# EAGLE library part EP2C8T144 (library lib_stankus)
Altera EP2C8T144 FPGA Farnell #1453487
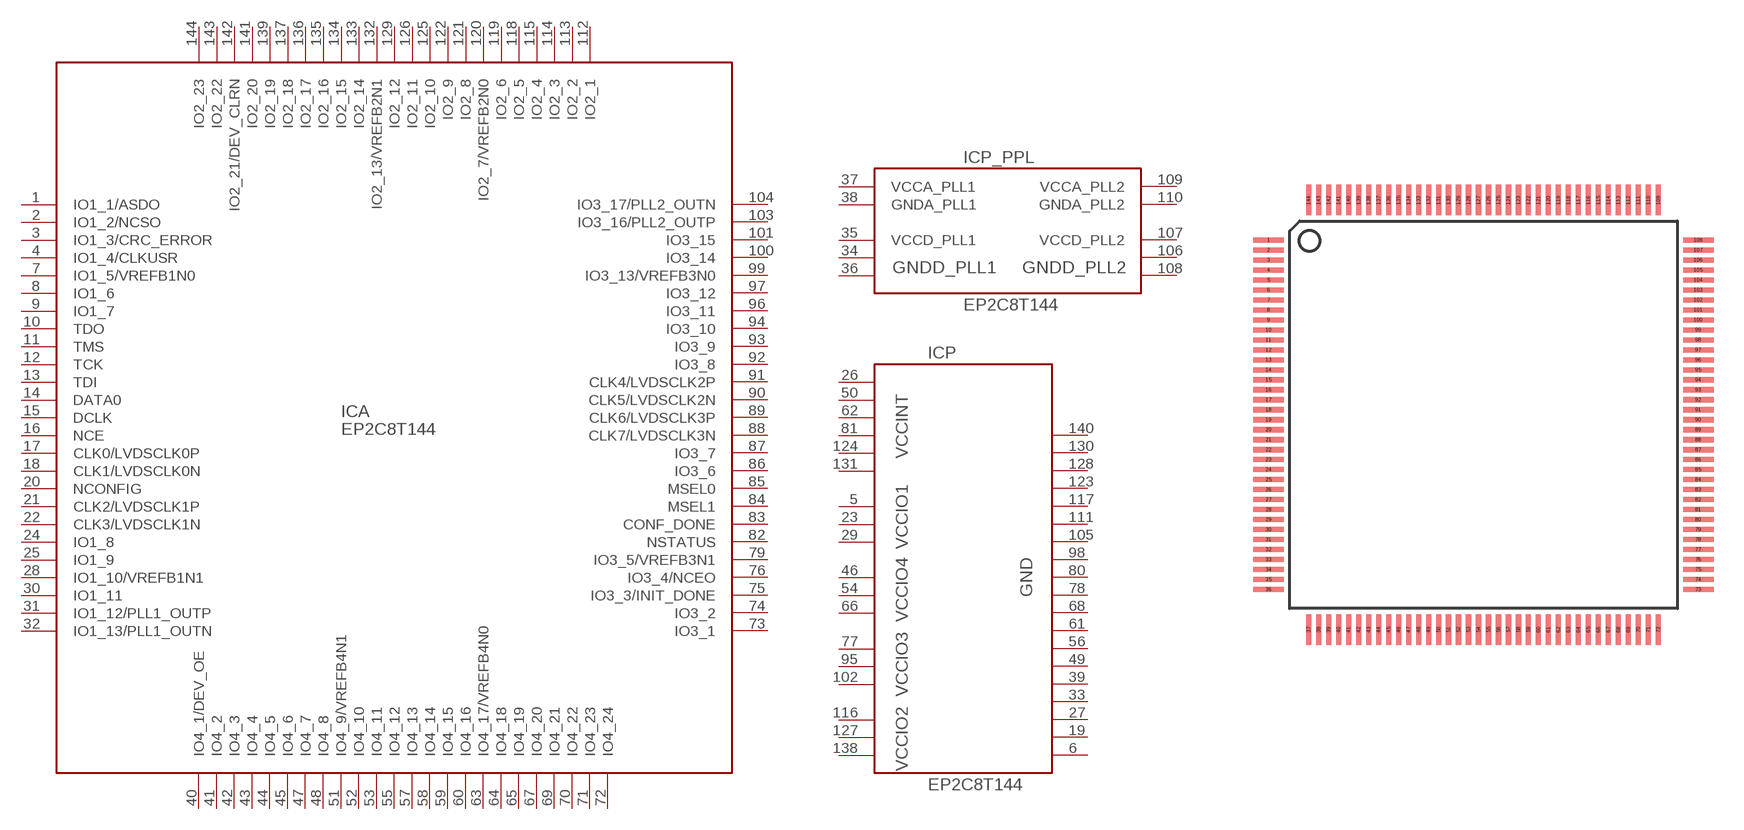
[diagram p8: symbol with the pads of QFP144_20_05; footprint QFP144_20_05]

Designator prefix IC; gates A=EP2C8T144_IO P=EP2C8T144_PWR P_PPL=EP2C8T144_PWRPLL

## EP2C8T144-QFP144  [QFP144_20_05]
1  A:IO1_1/ASDO  pas
2  A:IO1_2/NCSO  pas
3  A:IO1_3/CRC_ERROR  pas
4  A:IO1_4/CLKUSR  pas
5  P:VCCIO1  pas
6  P:GND  pas
7  A:IO1_5/VREFB1N0  pas
8  A:IO1_6  pas
9  A:IO1_7  pas
10  A:TDO  pas
11  A:TMS  pas
12  A:TCK  pas
13  A:TDI  pas
14  A:DATA0  pas
15  A:DCLK  pas
16  A:NCE  pas
17  A:CLK0/LVDSCLK0P  pas
18  A:CLK1/LVDSCLK0N  pas
19  P:GND  pas
20  A:NCONFIG  pas
21  A:CLK2/LVDSCLK1P  pas
22  A:CLK3/LVDSCLK1N  pas
23  P:VCCIO1  pas
24  A:IO1_8  pas
25  A:IO1_9  pas
26  P:VCCINT  pas
27  P:GND  pas
28  A:IO1_10/VREFB1N1  pas
29  P:VCCIO1  pas
30  A:IO1_11  pas
31  A:IO1_12/PLL1_OUTP  pas
32  A:IO1_13/PLL1_OUTN  pas
33  P:GND  pas
34  P_PPL:GNDD_PLL1  pas
35  P_PPL:VCCD_PLL1  pas
36  P_PPL:GNDD_PLL1  pas
37  P_PPL:VCCA_PLL1  pas
38  P_PPL:GNDA_PLL1  pas
39  P:GND  pas
40  A:IO4_1/DEV_OE  pas
41  A:IO4_2  pas
42  A:IO4_3  pas
43  A:IO4_4  pas
44  A:IO4_5  pas
45  A:IO4_6  pas
46  P:VCCIO4  pas
47  A:IO4_7  pas
48  A:IO4_8  pas
49  P:GND  pas
50  P:VCCINT  pas
51  A:IO4_9/VREFB4N1  pas
52  A:IO4_10  pas
53  A:IO4_11  pas
54  P:VCCIO4  pas
55  A:IO4_12  pas
56  P:GND  pas
57  A:IO4_13  pas
58  A:IO4_14  pas
59  A:IO4_15  pas
60  A:IO4_16  pas
61  P:GND  pas
62  P:VCCINT  pas
63  A:IO4_17/VREFB4N0  pas
64  A:IO4_18  pas
65  A:IO4_19  pas
66  P:VCCIO4  pas
67  A:IO4_20  pas
68  P:GND  pas
69  A:IO4_21  pas
70  A:IO4_22  pas
71  A:IO4_23  pas
72  A:IO4_24  pas
73  A:IO3_1  pas
74  A:IO3_2  pas
75  A:IO3_3/INIT_DONE  pas
76  A:IO3_4/NCEO  pas
77  P:VCCIO3  pas
78  P:GND  pas
79  A:IO3_5/VREFB3N1  pas
80  P:GND  pas
81  P:VCCINT  pas
82  A:NSTATUS  pas
83  A:CONF_DONE  pas
84  A:MSEL1  pas
85  A:MSEL0  pas
86  A:IO3_6  pas
87  A:IO3_7  pas
88  A:CLK7/LVDSCLK3N  pas
89  A:CLK6/LVDSCLK3P  pas
90  A:CLK5/LVDSCLK2N  pas
91  A:CLK4/LVDSCLK2P  pas
92  A:IO3_8  pas
93  A:IO3_9  pas
94  A:IO3_10  pas
95  P:VCCIO3  pas
96  A:IO3_11  pas
97  A:IO3_12  pas
98  P:GND  pas
99  A:IO3_13/VREFB3N0  pas
100  A:IO3_14  pas
101  A:IO3_15  pas
102  P:VCCIO3  pas
103  A:IO3_16/PLL2_OUTP  pas
104  A:IO3_17/PLL2_OUTN  pas
105  P:GND  pas
106  P_PPL:GNDD_PLL2  pas
107  P_PPL:VCCD_PLL2  pas
108  P_PPL:GNDD_PLL2  pas
109  P_PPL:VCCA_PLL2  pas
110  P_PPL:GNDA_PLL2  pas
111  P:GND  pas
112  A:IO2_1  pas
113  A:IO2_2  pas
114  A:IO2_3  pas
115  A:IO2_4  pas
116  P:VCCIO2  pas
117  P:GND  pas
118  A:IO2_5  pas
119  A:IO2_6  pas
120  A:IO2_7/VREFB2N0  pas
121  A:IO2_8  pas
122  A:IO2_9  pas
123  P:GND  pas
124  P:VCCINT  pas
125  A:IO2_10  pas
126  A:IO2_11  pas
127  P:VCCIO2  pas
128  P:GND  pas
129  A:IO2_12  pas
130  P:GND  pas
131  P:VCCINT  pas
132  A:IO2_13/VREFB2N1  pas
133  A:IO2_14  pas
134  A:IO2_15  pas
135  A:IO2_16  pas
136  A:IO2_17  pas
137  A:IO2_18  pas
138  P:VCCIO2  pas
139  A:IO2_19  pas
140  P:GND  pas
141  A:IO2_20  pas
142  A:IO2_21/DEV_CLRN  pas
143  A:IO2_22  pas
144  A:IO2_23  pas

## Footprint QFP144_20_05 (pad centres in mm)
QFP144, 20x20 MM, 0.5 MM
smd 1.524 x 0.254: 1 -10.75,8.75; 2 -10.75,8.25; 3 -10.75,7.75; 4 -10.75,7.25; 5 -10.75,6.75; 6 -10.75,6.25; 7 -10.75,5.75; 8 -10.75,5.25; 9 -10.75,4.75; 10 -10.75,4.25; 11 -10.75,3.75; 12 -10.75,3.25; 13 -10.75,2.75; 14 -10.75,2.25; 15 -10.75,1.75; 16 -10.75,1.25; 17 -10.75,0.75; 18 -10.75,0.25; 19 -10.75,-0.25; 20 -10.75,-0.75; 21 -10.75,-1.25; 22 -10.75,-1.75; 23 -10.75,-2.25; 24 -10.75,-2.75; 25 -10.75,-3.25; 26 -10.75,-3.75; 27 -10.75,-4.25; 28 -10.75,-4.75; 29 -10.75,-5.25; 30 -10.75,-5.75; 31 -10.75,-6.25; 32 -10.75,-6.75; 33 -10.75,-7.25; 34 -10.75,-7.75; 35 -10.75,-8.25; 36 -10.75,-8.75; 73 10.75,-8.75; 74 10.75,-8.25; 75 10.75,-7.75; 76 10.75,-7.25; 77 10.75,-6.75; 78 10.75,-6.25; 79 10.75,-5.75; 80 10.75,-5.25; 81 10.75,-4.75; 82 10.75,-4.25; 83 10.75,-3.75; 84 10.75,-3.25; 85 10.75,-2.75; 86 10.75,-2.25; 87 10.75,-1.75; 88 10.75,-1.25; 89 10.75,-0.75; 90 10.75,-0.25; 91 10.75,0.25; 92 10.75,0.75; 93 10.75,1.25; 94 10.75,1.75; 95 10.75,2.25; 96 10.75,2.75; 97 10.75,3.25; 98 10.75,3.75; 99 10.75,4.25; 100 10.75,4.75; 101 10.75,5.25; 102 10.75,5.75; 103 10.75,6.25; 104 10.75,6.75; 105 10.75,7.25; 106 10.75,7.75; 107 10.75,8.25; 108 10.75,8.75
smd 0.254 x 1.524: 37 -8.75,-10.75; 38 -8.25,-10.75; 39 -7.75,-10.75; 40 -7.25,-10.75; 41 -6.75,-10.75; 42 -6.25,-10.75; 43 -5.75,-10.75; 44 -5.25,-10.75; 45 -4.75,-10.75; 46 -4.25,-10.75; 47 -3.75,-10.75; 48 -3.25,-10.75; 49 -2.75,-10.75; 50 -2.25,-10.75; 51 -1.75,-10.75; 52 -1.25,-10.75; 53 -0.75,-10.75; 54 -0.25,-10.75; 55 0.25,-10.75; 56 0.75,-10.75; 57 1.25,-10.75; 58 1.75,-10.75; 59 2.25,-10.75; 60 2.75,-10.75; 61 3.25,-10.75; 62 3.75,-10.75; 63 4.25,-10.75; 64 4.75,-10.75; 65 5.25,-10.75; 66 5.75,-10.75; 67 6.25,-10.75; 68 6.75,-10.75; 69 7.25,-10.75; 70 7.75,-10.75; 71 8.25,-10.75; 72 8.75,-10.75; 109 8.75,10.75; 110 8.25,10.75; 111 7.75,10.75; 112 7.25,10.75; 113 6.75,10.75; 114 6.25,10.75; 115 5.75,10.75; 116 5.25,10.75; 117 4.75,10.75; 118 4.25,10.75; 119 3.75,10.75; 120 3.25,10.75; 121 2.75,10.75; 122 2.25,10.75; 123 1.75,10.75; 124 1.25,10.75; 125 0.75,10.75; 126 0.25,10.75; 127 -0.25,10.75; 128 -0.75,10.75; 129 -1.25,10.75; 130 -1.75,10.75; 131 -2.25,10.75; 132 -2.75,10.75; 133 -3.25,10.75; 134 -3.75,10.75; 135 -4.25,10.75; 136 -4.75,10.75; 137 -5.25,10.75; 138 -5.75,10.75; 139 -6.25,10.75; 140 -6.75,10.75; 141 -7.25,10.75; 142 -7.75,10.75; 143 -8.25,10.75; 144 -8.75,10.75